# EAGLE library part MICROBUILDER_HT16K33_SOP28 (library ChessComputer)
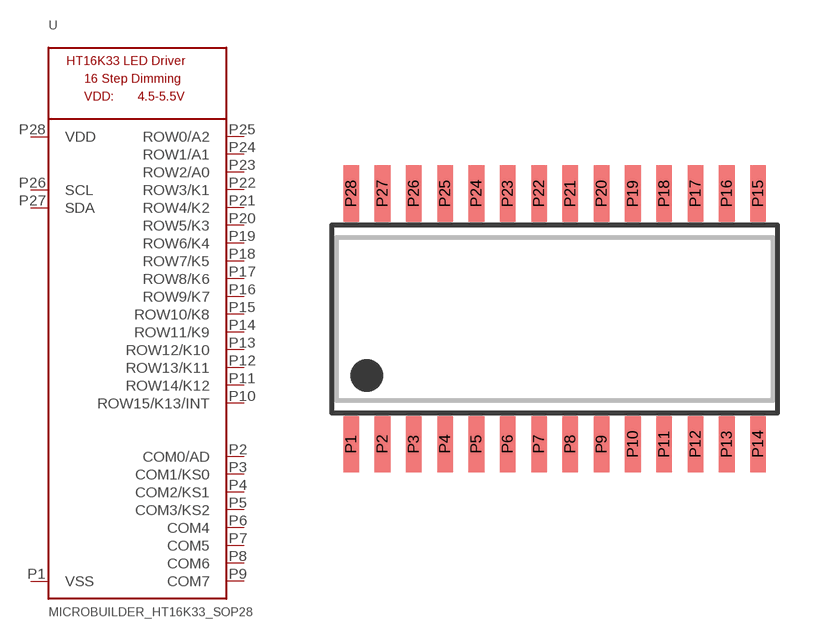
[diagram p3: symbol with the pads of MICROBUILDER_SOP28_300MIL; footprint MICROBUILDER_SOP28_300MIL]

Designator prefix U

## MICROBUILDER_HT16K33_SOP28  [MICROBUILDER_SOP28_300MIL]
P1  VSS
P2  COM0/AD
P3  COM1/KS0
P4  COM2/KS1
P5  COM3/KS2
P6  COM4
P7  COM5
P8  COM6
P9  COM7
P10  ROW15/K13/INT
P11  ROW14/K12
P12  ROW13/K11
P13  ROW12/K10
P14  ROW11/K9
P15  ROW10/K8
P16  ROW9/K7
P17  ROW8/K6
P18  ROW7/K5
P19  ROW6/K4
P20  ROW5/K3
P21  ROW4/K2
P22  ROW3/K1
P23  ROW2/A0
P24  ROW1/A1
P25  ROW0/A2
P26  SCL
P27  SDA
P28  VDD

## Footprint MICROBUILDER_SOP28_300MIL (pad centres in mm)
smd 0.635 x 2.286: P1 -8.255,-5.08; P2 -6.985,-5.08; P3 -5.715,-5.08; P4 -4.445,-5.08; P5 -3.175,-5.08; P6 -1.905,-5.08; P7 -0.635,-5.08; P8 0.635,-5.08; P9 1.905,-5.08; P10 3.175,-5.08; P11 4.445,-5.08; P12 5.715,-5.08; P13 6.985,-5.08; P14 8.255,-5.08; P15 8.255,5.08; P16 6.985,5.08; P17 5.715,5.08; P18 4.445,5.08; P19 3.175,5.08; P20 1.905,5.08; P21 0.635,5.08; P22 -0.635,5.08; P23 -1.905,5.08; P24 -3.175,5.08; P25 -4.445,5.08; P26 -5.715,5.08; P27 -6.985,5.08; P28 -8.255,5.08